# Altium schematic symbol library Resistors$.SchLib: 672 symbols (part 2 of 5)
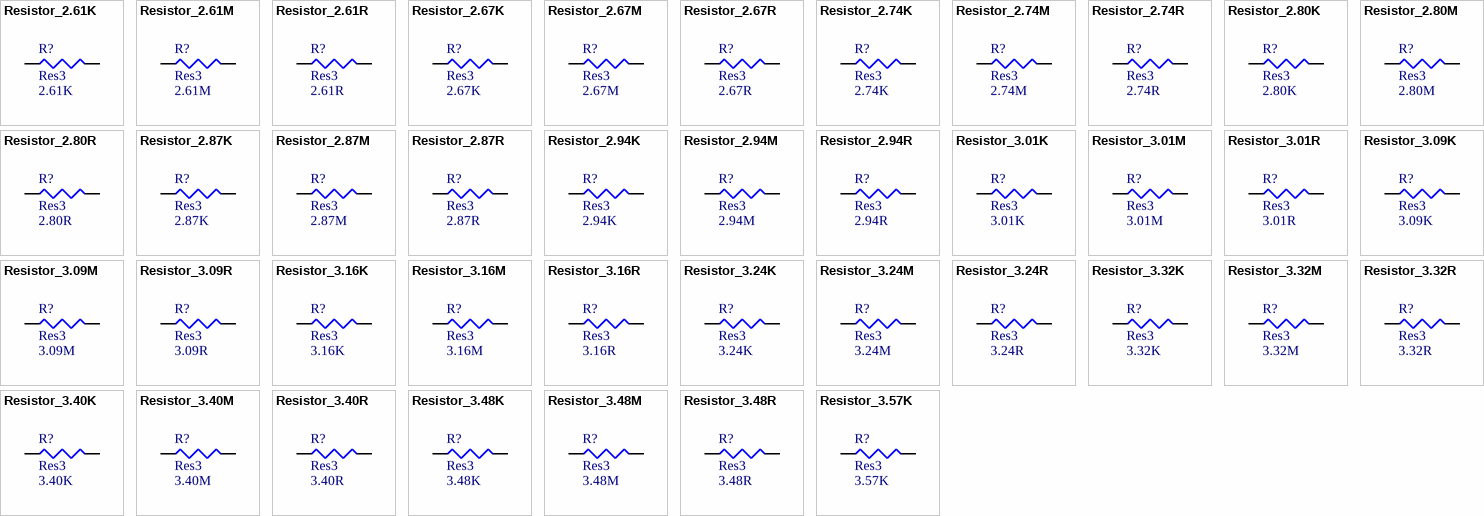
[diagram p17: symbols Resistor_2.61K to Resistor_3.57K]

## Resistor_3.32K
designator R?, comment Res3  value 3.32K
RES SMD 3.32K OHM 1% 1/8W 0805; MPN: CRCW08053K32FKEA; Name: Resistor_3.32K; PN: 541-3320KCCT-ND; URL: http://www.digikey.ca/product-detail/en/CRCW08053K32FKEA/541-3320KCCT-ND
footprint RESC2112X05M (Chip Resistor, 2-Leads, Body 2.05x1.25mm, IPC Low Density)
pins: 1, 2

## Resistor_3.32M
designator R?, comment Res3  value 3.32M
RES SMD 3.32M OHM 1% 1/8W 0805; MPN: CRCW08053M32FKEA; Name: Resistor_3.32M; PN: 541-3320MCCT-ND; URL: http://www.digikey.ca/product-detail/en/CRCW08053M32FKEA/541-3320MCCT-ND
footprint RESC2112X05M (Chip Resistor, 2-Leads, Body 2.05x1.25mm, IPC Low Density)
pins: 1, 2

## Resistor_3.32R
designator R?, comment Res3  value 3.32R
RES SMD 3.32R OHM 1% 1/8W 0805; MPN: CRCW08053R32FKEA; Name: Resistor_3.32R; PN: 541-3.32CCCT-ND; URL: http://www.digikey.ca/product-detail/en/CRCW08053R32FKEA/541-3.32CCCT-ND
footprint RESC2112X05M (Chip Resistor, 2-Leads, Body 2.05x1.25mm, IPC Low Density)
pins: 1, 2

## Resistor_3.40K
designator R?, comment Res3  value 3.40K
RES SMD 3.40K OHM 1% 1/8W 0805; MPN: CRCW08053K40FKEA; Name: Resistor_3.40K; PN: 541-3400KCCT-ND; URL: http://www.digikey.ca/product-detail/en/CRCW08053K40FKEA/541-3400KCCT-ND
footprint RESC2112X05M (Chip Resistor, 2-Leads, Body 2.05x1.25mm, IPC Low Density)
pins: 1, 2

## Resistor_3.40M
designator R?, comment Res3  value 3.40M
RES SMD 3.40M OHM 1% 1/8W 0805; MPN: CRCW08053M40FKEA; Name: Resistor_3.40M; PN: 541-3400MCCT-ND; URL: http://www.digikey.ca/product-detail/en/CRCW08053M40FKEA/541-3400MCCT-ND
footprint RESC2112X05M (Chip Resistor, 2-Leads, Body 2.05x1.25mm, IPC Low Density)
pins: 1, 2

## Resistor_3.40R
designator R?, comment Res3  value 3.40R
RES SMD 3.40R OHM 1% 1/8W 0805; MPN: CRCW08053R40FKEA; Name: Resistor_3.40R; PN: 541-3.40CCCT-ND; URL: http://www.digikey.ca/product-detail/en/CRCW08053R40FKEA/541-3.40CCCT-ND
footprint RESC2112X05M (Chip Resistor, 2-Leads, Body 2.05x1.25mm, IPC Low Density)
pins: 1, 2

## Resistor_3.48K
designator R?, comment Res3  value 3.48K
RES SMD 3.48K OHM 1% 1/8W 0805; MPN: CRCW08053K48FKEA; Name: Resistor_3.48K; PN: 541-3480KCCT-ND; URL: http://www.digikey.ca/product-detail/en/CRCW08053K48FKEA/541-3480KCCT-ND
footprint RESC2112X05M (Chip Resistor, 2-Leads, Body 2.05x1.25mm, IPC Low Density)
pins: 1, 2

## Resistor_3.48M
designator R?, comment Res3  value 3.48M
RES SMD 3.48M OHM 1% 1/8W 0805; MPN: CRCW08053M48FKEA; Name: Resistor_3.48M; PN: 541-3480MCCT-ND; URL: http://www.digikey.ca/product-detail/en/CRCW08053M48FKEA/541-3480MCCT-ND
footprint RESC2112X05M (Chip Resistor, 2-Leads, Body 2.05x1.25mm, IPC Low Density)
pins: 1, 2

## Resistor_3.48R
designator R?, comment Res3  value 3.48R
RES SMD 3.48R OHM 1% 1/8W 0805; MPN: CRCW08053R48FKEA; Name: Resistor_3.48R; PN: 541-3.48CCCT-ND; URL: http://www.digikey.ca/product-detail/en/CRCW08053R48FKEA/541-3.48CCCT-ND
footprint RESC2112X05M (Chip Resistor, 2-Leads, Body 2.05x1.25mm, IPC Low Density)
pins: 1, 2

## Resistor_3.57K
designator R?, comment Res3  value 3.57K
RES SMD 3.57K OHM 1% 1/8W 0805; MPN: CRCW08053K57FKEA; Name: Resistor_3.57K; PN: 541-3570KCCT-ND; URL: http://www.digikey.ca/product-detail/en/CRCW08053K57FKEA/541-3570KCCT-ND
footprint RESC2112X05M (Chip Resistor, 2-Leads, Body 2.05x1.25mm, IPC Low Density)
pins: 1, 2

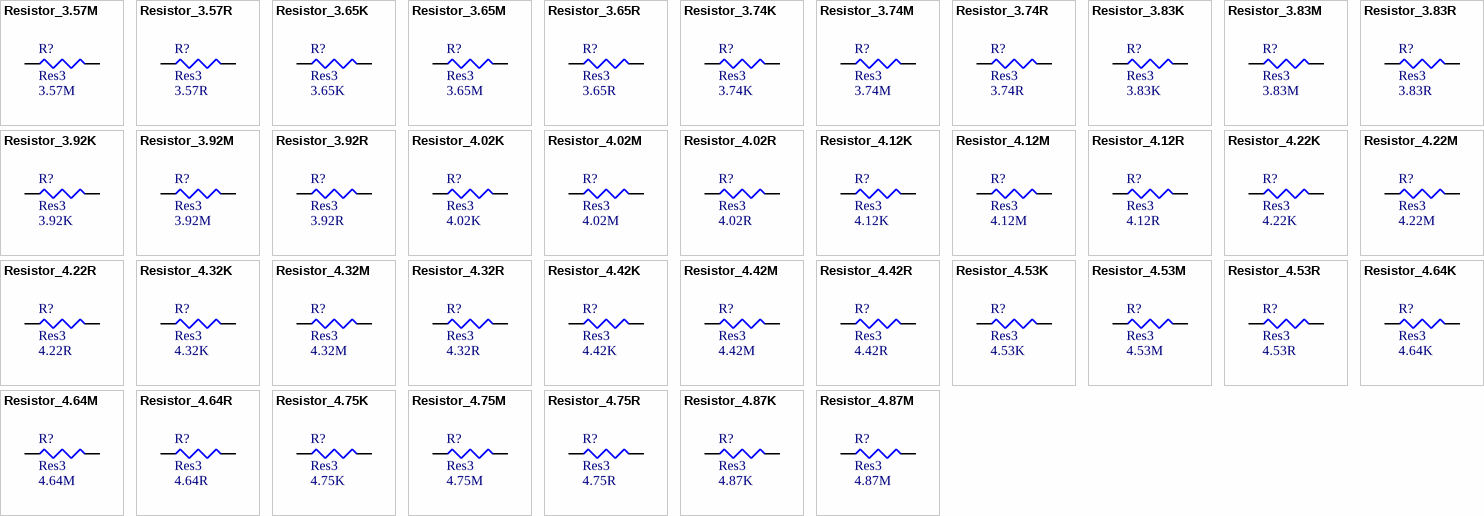
[diagram p4: symbols Resistor_3.57M to Resistor_4.87M]

## Resistor_3.57M
designator R?, comment Res3  value 3.57M
RES SMD 3.57M OHM 1% 1/8W 0805; MPN: CRCW08053M57FKEA; Name: Resistor_3.57M; PN: 541-3570MCCT-ND; URL: http://www.digikey.ca/product-detail/en/CRCW08053M57FKEA/541-3570MCCT-ND
footprint RESC2112X05M (Chip Resistor, 2-Leads, Body 2.05x1.25mm, IPC Low Density)
pins: 1, 2

## Resistor_3.57R
designator R?, comment Res3  value 3.57R
RES SMD 3.57R OHM 1% 1/8W 0805; MPN: CRCW08053R57FKEA; Name: Resistor_3.57R; PN: 541-3.57CCCT-ND; URL: http://www.digikey.ca/product-detail/en/CRCW08053R57FKEA/541-3.57CCCT-ND
footprint RESC2112X05M (Chip Resistor, 2-Leads, Body 2.05x1.25mm, IPC Low Density)
pins: 1, 2

## Resistor_3.65K
designator R?, comment Res3  value 3.65K
RES SMD 3.65K OHM 1% 1/8W 0805; MPN: CRCW08053K65FKEA; Name: Resistor_3.65K; PN: 541-3650KCCT-ND; URL: http://www.digikey.ca/product-detail/en/CRCW08053K65FKEA/541-3650KCCT-ND
footprint RESC2112X05M (Chip Resistor, 2-Leads, Body 2.05x1.25mm, IPC Low Density)
pins: 1, 2

## Resistor_3.65M
designator R?, comment Res3  value 3.65M
RES SMD 3.65M OHM 1% 1/8W 0805; MPN: CRCW08053M65FKEA; Name: Resistor_3.65M; PN: 541-3650MCCT-ND; URL: http://www.digikey.ca/product-detail/en/CRCW08053M65FKEA/541-3650MCCT-ND
footprint RESC2112X05M (Chip Resistor, 2-Leads, Body 2.05x1.25mm, IPC Low Density)
pins: 1, 2

## Resistor_3.65R
designator R?, comment Res3  value 3.65R
RES SMD 3.65R OHM 1% 1/8W 0805; MPN: CRCW08053R65FKEA; Name: Resistor_3.65R; PN: 541-3.65CCCT-ND; URL: http://www.digikey.ca/product-detail/en/CRCW08053R65FKEA/541-3.65CCCT-ND
footprint RESC2112X05M (Chip Resistor, 2-Leads, Body 2.05x1.25mm, IPC Low Density)
pins: 1, 2

## Resistor_3.74K
designator R?, comment Res3  value 3.74K
RES SMD 3.74K OHM 1% 1/8W 0805; MPN: CRCW08053K74FKEA; Name: Resistor_3.74K; PN: 541-3740KCCT-ND; URL: http://www.digikey.ca/product-detail/en/CRCW08053K74FKEA/541-3740KCCT-ND
footprint RESC2112X05M (Chip Resistor, 2-Leads, Body 2.05x1.25mm, IPC Low Density)
pins: 1, 2

## Resistor_3.74M
designator R?, comment Res3  value 3.74M
RES SMD 3.74M OHM 1% 1/8W 0805; MPN: CRCW08053M74FKEA; Name: Resistor_3.74M; PN: 541-3740MCCT-ND; URL: http://www.digikey.ca/product-detail/en/CRCW08053M74FKEA/541-3740MCCT-ND
footprint RESC2112X05M (Chip Resistor, 2-Leads, Body 2.05x1.25mm, IPC Low Density)
pins: 1, 2

## Resistor_3.74R
designator R?, comment Res3  value 3.74R
RES SMD 3.74R OHM 1% 1/8W 0805; MPN: CRCW08053R74FKEA; Name: Resistor_3.74R; PN: 541-3.74CCCT-ND; URL: http://www.digikey.ca/product-detail/en/CRCW08053R74FKEA/541-3.74CCCT-ND
footprint RESC2112X05M (Chip Resistor, 2-Leads, Body 2.05x1.25mm, IPC Low Density)
pins: 1, 2

## Resistor_3.83K
designator R?, comment Res3  value 3.83K
RES SMD 3.83K OHM 1% 1/8W 0805; MPN: CRCW08053K83FKEA; Name: Resistor_3.83K; PN: 541-3830KCCT-ND; URL: http://www.digikey.ca/product-detail/en/CRCW08053K83FKEA/541-3830KCCT-ND
footprint RESC2112X05M (Chip Resistor, 2-Leads, Body 2.05x1.25mm, IPC Low Density)
pins: 1, 2

## Resistor_3.83M
designator R?, comment Res3  value 3.83M
RES SMD 3.83M OHM 1% 1/8W 0805; MPN: CRCW08053M83FKEA; Name: Resistor_3.83M; PN: 541-3830MCCT-ND; URL: http://www.digikey.ca/product-detail/en/CRCW08053M83FKEA/541-3830MCCT-ND
footprint RESC2112X05M (Chip Resistor, 2-Leads, Body 2.05x1.25mm, IPC Low Density)
pins: 1, 2

## Resistor_3.83R
designator R?, comment Res3  value 3.83R
RES SMD 3.83R OHM 1% 1/8W 0805; MPN: CRCW08053R83FKEA; Name: Resistor_3.83R; PN: 541-3.83CCCT-ND; URL: http://www.digikey.ca/product-detail/en/CRCW08053R83FKEA/541-3.83CCCT-ND
footprint RESC2112X05M (Chip Resistor, 2-Leads, Body 2.05x1.25mm, IPC Low Density)
pins: 1, 2

## Resistor_3.92K
designator R?, comment Res3  value 3.92K
RES SMD 3.92K OHM 1% 1/8W 0805; MPN: CRCW08053K92FKEA; Name: Resistor_3.92K; PN: 541-3920KCCT-ND; URL: http://www.digikey.ca/product-detail/en/CRCW08053K92FKEA/541-3920KCCT-ND
footprint RESC2112X05M (Chip Resistor, 2-Leads, Body 2.05x1.25mm, IPC Low Density)
pins: 1, 2

## Resistor_3.92M
designator R?, comment Res3  value 3.92M
RES SMD 3.92M OHM 1% 1/8W 0805; MPN: CRCW08053M92FKEA; Name: Resistor_3.92M; PN: 541-3920MCCT-ND; URL: http://www.digikey.ca/product-detail/en/CRCW08053M92FKEA/541-3920MCCT-ND
footprint RESC2112X05M (Chip Resistor, 2-Leads, Body 2.05x1.25mm, IPC Low Density)
pins: 1, 2

## Resistor_3.92R
designator R?, comment Res3  value 3.92R
RES SMD 3.92R OHM 1% 1/8W 0805; MPN: CRCW08053R92FKEA; Name: Resistor_3.92R; PN: 541-3.92CCCT-ND; URL: http://www.digikey.ca/product-detail/en/CRCW08053R92FKEA/541-3.92CCCT-ND
footprint RESC2112X05M (Chip Resistor, 2-Leads, Body 2.05x1.25mm, IPC Low Density)
pins: 1, 2

## Resistor_4.02K
designator R?, comment Res3  value 4.02K
RES SMD 4.02K OHM 1% 1/8W 0805; MPN: CRCW08054K02FKEA; Name: Resistor_4.02K; PN: 541-4020KCCT-ND; URL: http://www.digikey.ca/product-detail/en/CRCW08054K02FKEA/541-4020KCCT-ND
footprint RESC2112X05M (Chip Resistor, 2-Leads, Body 2.05x1.25mm, IPC Low Density)
pins: 1, 2

## Resistor_4.02M
designator R?, comment Res3  value 4.02M
RES SMD 4.02M OHM 1% 1/8W 0805; MPN: CRCW08054M02FKEA; Name: Resistor_4.02M; PN: 541-4020MCCT-ND; URL: http://www.digikey.ca/product-detail/en/CRCW08054M02FKEA/541-4020MCCT-ND
footprint RESC2112X05M (Chip Resistor, 2-Leads, Body 2.05x1.25mm, IPC Low Density)
pins: 1, 2

## Resistor_4.02R
designator R?, comment Res3  value 4.02R
RES SMD 4.02R OHM 1% 1/8W 0805; MPN: CRCW08054R02FKEA; Name: Resistor_4.02R; PN: 541-4.02CCCT-ND; URL: http://www.digikey.ca/product-detail/en/CRCW08054R02FKEA/541-4.02CCCT-ND
footprint RESC2112X05M (Chip Resistor, 2-Leads, Body 2.05x1.25mm, IPC Low Density)
pins: 1, 2

## Resistor_4.12K
designator R?, comment Res3  value 4.12K
RES SMD 4.12K OHM 1% 1/8W 0805; MPN: CRCW08054K12FKEA; Name: Resistor_4.12K; PN: 541-4120KCCT-ND; URL: http://www.digikey.ca/product-detail/en/CRCW08054K12FKEA/541-4120KCCT-ND
footprint RESC2112X05M (Chip Resistor, 2-Leads, Body 2.05x1.25mm, IPC Low Density)
pins: 1, 2

## Resistor_4.12M
designator R?, comment Res3  value 4.12M
RES SMD 4.12M OHM 1% 1/8W 0805; MPN: CRCW08054M12FKEA; Name: Resistor_4.12M; PN: 541-4120MCCT-ND; URL: http://www.digikey.ca/product-detail/en/CRCW08054M12FKEA/541-4120MCCT-ND
footprint RESC2112X05M (Chip Resistor, 2-Leads, Body 2.05x1.25mm, IPC Low Density)
pins: 1, 2

## Resistor_4.12R
designator R?, comment Res3  value 4.12R
RES SMD 4.12R OHM 1% 1/8W 0805; MPN: CRCW08054R12FKEA; Name: Resistor_4.12R; PN: 541-4.12CCCT-ND; URL: http://www.digikey.ca/product-detail/en/CRCW08054R12FKEA/541-4.12CCCT-ND
footprint RESC2112X05M (Chip Resistor, 2-Leads, Body 2.05x1.25mm, IPC Low Density)
pins: 1, 2

## Resistor_4.22K
designator R?, comment Res3  value 4.22K
RES SMD 4.22K OHM 1% 1/8W 0805; MPN: CRCW08054K22FKEA; Name: Resistor_4.22K; PN: 541-4220KCCT-ND; URL: http://www.digikey.ca/product-detail/en/CRCW08054K22FKEA/541-4220KCCT-ND
footprint RESC2112X05M (Chip Resistor, 2-Leads, Body 2.05x1.25mm, IPC Low Density)
pins: 1, 2

## Resistor_4.22M
designator R?, comment Res3  value 4.22M
RES SMD 4.22M OHM 1% 1/8W 0805; MPN: CRCW08054M22FKEA; Name: Resistor_4.22M; PN: 541-4220MCCT-ND; URL: http://www.digikey.ca/product-detail/en/CRCW08054M22FKEA/541-4220MCCT-ND
footprint RESC2112X05M (Chip Resistor, 2-Leads, Body 2.05x1.25mm, IPC Low Density)
pins: 1, 2

## Resistor_4.22R
designator R?, comment Res3  value 4.22R
RES SMD 4.22R OHM 1% 1/8W 0805; MPN: CRCW08054R22FKEA; Name: Resistor_4.22R; PN: 541-4.22CCCT-ND; URL: http://www.digikey.ca/product-detail/en/CRCW08054R22FKEA/541-4.22CCCT-ND
footprint RESC2112X05M (Chip Resistor, 2-Leads, Body 2.05x1.25mm, IPC Low Density)
pins: 1, 2

## Resistor_4.32K
designator R?, comment Res3  value 4.32K
RES SMD 4.32K OHM 1% 1/8W 0805; MPN: CRCW08054K32FKEA; Name: Resistor_4.32K; PN: 541-4320KCCT-ND; URL: http://www.digikey.ca/product-detail/en/CRCW08054K32FKEA/541-4320KCCT-ND
footprint RESC2112X05M (Chip Resistor, 2-Leads, Body 2.05x1.25mm, IPC Low Density)
pins: 1, 2

## Resistor_4.32M
designator R?, comment Res3  value 4.32M
RES SMD 4.32M OHM 1% 1/8W 0805; MPN: CRCW08054M32FKEA; Name: Resistor_4.32M; PN: 541-4320MCCT-ND; URL: http://www.digikey.ca/product-detail/en/CRCW08054M32FKEA/541-4320MCCT-ND
footprint RESC2112X05M (Chip Resistor, 2-Leads, Body 2.05x1.25mm, IPC Low Density)
pins: 1, 2

## Resistor_4.32R
designator R?, comment Res3  value 4.32R
RES SMD 4.32R OHM 1% 1/8W 0805; MPN: CRCW08054R32FKEA; Name: Resistor_4.32R; PN: 541-4.32CCCT-ND; URL: http://www.digikey.ca/product-detail/en/CRCW08054R32FKEA/541-4.32CCCT-ND
footprint RESC2112X05M (Chip Resistor, 2-Leads, Body 2.05x1.25mm, IPC Low Density)
pins: 1, 2

## Resistor_4.42K
designator R?, comment Res3  value 4.42K
RES SMD 4.42K OHM 1% 1/8W 0805; MPN: CRCW08054K42FKEA; Name: Resistor_4.42K; PN: 541-4420KCCT-ND; URL: http://www.digikey.ca/product-detail/en/CRCW08054K42FKEA/541-4420KCCT-ND
footprint RESC2112X05M (Chip Resistor, 2-Leads, Body 2.05x1.25mm, IPC Low Density)
pins: 1, 2

## Resistor_4.42M
designator R?, comment Res3  value 4.42M
RES SMD 4.42M OHM 1% 1/8W 0805; MPN: CRCW08054M42FKEA; Name: Resistor_4.42M; PN: 541-4420MCCT-ND; URL: http://www.digikey.ca/product-detail/en/CRCW08054M42FKEA/541-4420MCCT-ND
footprint RESC2112X05M (Chip Resistor, 2-Leads, Body 2.05x1.25mm, IPC Low Density)
pins: 1, 2

## Resistor_4.42R
designator R?, comment Res3  value 4.42R
RES SMD 4.42R OHM 1% 1/8W 0805; MPN: CRCW08054R42FKEA; Name: Resistor_4.42R; PN: 541-4.42CCCT-ND; URL: http://www.digikey.ca/product-detail/en/CRCW08054R42FKEA/541-4.42CCCT-ND
footprint RESC2112X05M (Chip Resistor, 2-Leads, Body 2.05x1.25mm, IPC Low Density)
pins: 1, 2

## Resistor_4.53K
designator R?, comment Res3  value 4.53K
RES SMD 4.53K OHM 1% 1/8W 0805; MPN: CRCW08054K53FKEA; Name: Resistor_4.53K; PN: 541-4530KCCT-ND; URL: http://www.digikey.ca/product-detail/en/CRCW08054K53FKEA/541-4530KCCT-ND
footprint RESC2112X05M (Chip Resistor, 2-Leads, Body 2.05x1.25mm, IPC Low Density)
pins: 1, 2

## Resistor_4.53M
designator R?, comment Res3  value 4.53M
RES SMD 4.53M OHM 1% 1/8W 0805; MPN: CRCW08054M53FKEA; Name: Resistor_4.53M; PN: 541-4530MCCT-ND; URL: http://www.digikey.ca/product-detail/en/CRCW08054M53FKEA/541-4530MCCT-ND
footprint RESC2112X05M (Chip Resistor, 2-Leads, Body 2.05x1.25mm, IPC Low Density)
pins: 1, 2

## Resistor_4.53R
designator R?, comment Res3  value 4.53R
RES SMD 4.53R OHM 1% 1/8W 0805; MPN: CRCW08054R53FKEA; Name: Resistor_4.53R; PN: 541-4.53CCCT-ND; URL: http://www.digikey.ca/product-detail/en/CRCW08054R53FKEA/541-4.53CCCT-ND
footprint RESC2112X05M (Chip Resistor, 2-Leads, Body 2.05x1.25mm, IPC Low Density)
pins: 1, 2

## Resistor_4.64K
designator R?, comment Res3  value 4.64K
RES SMD 4.64K OHM 1% 1/8W 0805; MPN: CRCW08054K64FKEA; Name: Resistor_4.64K; PN: 541-4640KCCT-ND; URL: http://www.digikey.ca/product-detail/en/CRCW08054K64FKEA/541-4640KCCT-ND
footprint RESC2112X05M (Chip Resistor, 2-Leads, Body 2.05x1.25mm, IPC Low Density)
pins: 1, 2

## Resistor_4.64M
designator R?, comment Res3  value 4.64M
RES SMD 4.64M OHM 1% 1/8W 0805; MPN: CRCW08054M64FKEA; Name: Resistor_4.64M; PN: 541-4640MCCT-ND; URL: http://www.digikey.ca/product-detail/en/CRCW08054M64FKEA/541-4640MCCT-ND
footprint RESC2112X05M (Chip Resistor, 2-Leads, Body 2.05x1.25mm, IPC Low Density)
pins: 1, 2

## Resistor_4.64R
designator R?, comment Res3  value 4.64R
RES SMD 4.64R OHM 1% 1/8W 0805; MPN: CRCW08054R64FKEA; Name: Resistor_4.64R; PN: 541-4.64CCCT-ND; URL: http://www.digikey.ca/product-detail/en/CRCW08054R64FKEA/541-4.64CCCT-ND
footprint RESC2112X05M (Chip Resistor, 2-Leads, Body 2.05x1.25mm, IPC Low Density)
pins: 1, 2

## Resistor_4.75K
designator R?, comment Res3  value 4.75K
RES SMD 4.75K OHM 1% 1/8W 0805; MPN: CRCW08054K75FKEA; Name: Resistor_4.75K; PN: 541-4750KCCT-ND; URL: http://www.digikey.ca/product-detail/en/CRCW08054K75FKEA/541-4750KCCT-ND
footprint RESC2112X05M (Chip Resistor, 2-Leads, Body 2.05x1.25mm, IPC Low Density)
pins: 1, 2

## Resistor_4.75M
designator R?, comment Res3  value 4.75M
RES SMD 4.75M OHM 1% 1/8W 0805; MPN: CRCW08054M75FKEA; Name: Resistor_4.75M; PN: 541-4750MCCT-ND; URL: http://www.digikey.ca/product-detail/en/CRCW08054M75FKEA/541-4750MCCT-ND
footprint RESC2112X05M (Chip Resistor, 2-Leads, Body 2.05x1.25mm, IPC Low Density)
pins: 1, 2

## Resistor_4.75R
designator R?, comment Res3  value 4.75R
RES SMD 4.75R OHM 1% 1/8W 0805; MPN: CRCW08054R75FKEA; Name: Resistor_4.75R; PN: 541-4.75CCCT-ND; URL: http://www.digikey.ca/product-detail/en/CRCW08054R75FKEA/541-4.75CCCT-ND
footprint RESC2112X05M (Chip Resistor, 2-Leads, Body 2.05x1.25mm, IPC Low Density)
pins: 1, 2

## Resistor_4.87K
designator R?, comment Res3  value 4.87K
RES SMD 4.87K OHM 1% 1/8W 0805; MPN: CRCW08054K87FKEA; Name: Resistor_4.87K; PN: 541-4870KCCT-ND; URL: http://www.digikey.ca/product-detail/en/CRCW08054K87FKEA/541-4870KCCT-ND
footprint RESC2112X05M (Chip Resistor, 2-Leads, Body 2.05x1.25mm, IPC Low Density)
pins: 1, 2

## Resistor_4.87M
designator R?, comment Res3  value 4.87M
RES SMD 4.87M OHM 1% 1/8W 0805; MPN: CRCW08054M87FKEA; Name: Resistor_4.87M; PN: 541-4870MCCT-ND; URL: http://www.digikey.ca/product-detail/en/CRCW08054M87FKEA/541-4870MCCT-ND
footprint RESC2112X05M (Chip Resistor, 2-Leads, Body 2.05x1.25mm, IPC Low Density)
pins: 1, 2

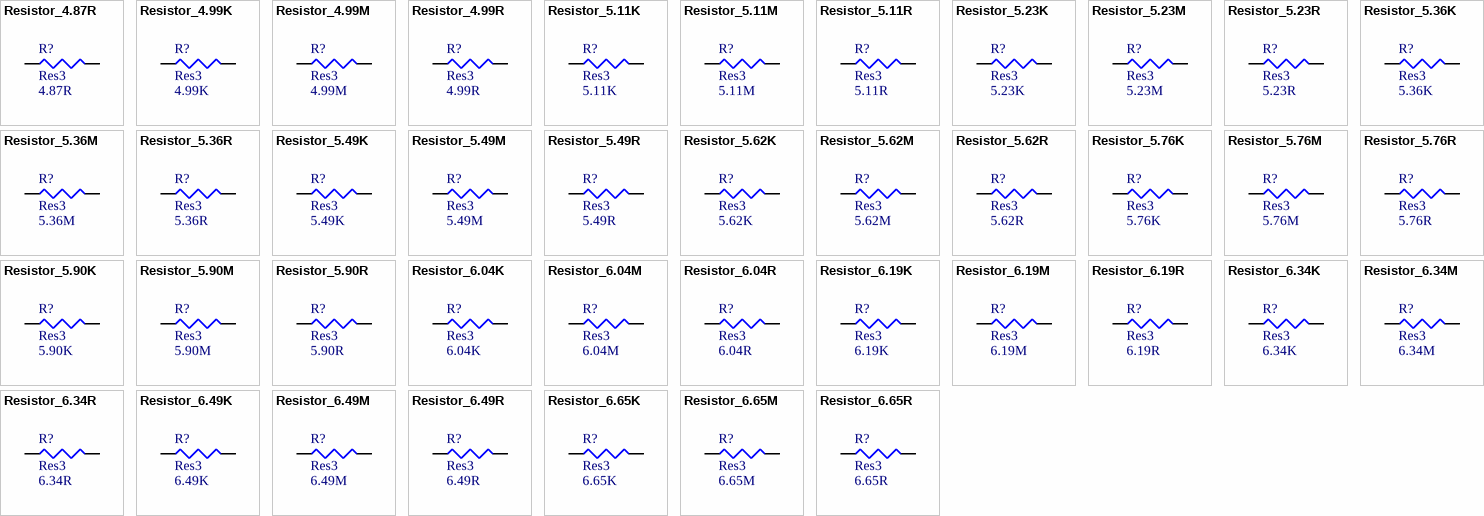
[diagram p5: symbols Resistor_4.87R to Resistor_6.65R]

## Resistor_4.87R
designator R?, comment Res3  value 4.87R
RES SMD 4.87R OHM 1% 1/8W 0805; MPN: CRCW08054R87FKEA; Name: Resistor_4.87R; PN: 541-4.87CCCT-ND; URL: http://www.digikey.ca/product-detail/en/CRCW08054R87FKEA/541-4.87CCCT-ND
footprint RESC2112X05M (Chip Resistor, 2-Leads, Body 2.05x1.25mm, IPC Low Density)
pins: 1, 2

## Resistor_4.99K
designator R?, comment Res3  value 4.99K
RES SMD 4.99K OHM 1% 1/8W 0805; MPN: CRCW08054K99FKEA; Name: Resistor_4.99K; PN: 541-4990KCCT-ND; URL: http://www.digikey.ca/product-detail/en/CRCW08054K99FKEA/541-4990KCCT-ND
footprint RESC2112X05M (Chip Resistor, 2-Leads, Body 2.05x1.25mm, IPC Low Density)
pins: 1, 2

## Resistor_4.99M
designator R?, comment Res3  value 4.99M
RES SMD 4.99M OHM 1% 1/8W 0805; MPN: CRCW08054M99FKEA; Name: Resistor_4.99M; PN: 541-4990MCCT-ND; URL: http://www.digikey.ca/product-detail/en/CRCW08054M99FKEA/541-4990MCCT-ND
footprint RESC2112X05M (Chip Resistor, 2-Leads, Body 2.05x1.25mm, IPC Low Density)
pins: 1, 2

## Resistor_4.99R
designator R?, comment Res3  value 4.99R
RES SMD 4.99R OHM 1% 1/8W 0805; MPN: CRCW08054R99FKEA; Name: Resistor_4.99R; PN: 541-4.99CCCT-ND; URL: http://www.digikey.ca/product-detail/en/CRCW08054R99FKEA/541-4.99CCCT-ND
footprint RESC2112X05M (Chip Resistor, 2-Leads, Body 2.05x1.25mm, IPC Low Density)
pins: 1, 2

## Resistor_5.11K
designator R?, comment Res3  value 5.11K
RES SMD 5.11K OHM 1% 1/8W 0805; MPN: CRCW08055K11FKEA; Name: Resistor_5.11K; PN: 541-5110KCCT-ND; URL: http://www.digikey.ca/product-detail/en/CRCW08055K11FKEA/541-5110KCCT-ND
footprint RESC2112X05M (Chip Resistor, 2-Leads, Body 2.05x1.25mm, IPC Low Density)
pins: 1, 2

## Resistor_5.11M
designator R?, comment Res3  value 5.11M
RES SMD 5.11M OHM 1% 1/8W 0805; MPN: CRCW08055M11FKEA; Name: Resistor_5.11M; PN: 541-5110MCCT-ND; URL: http://www.digikey.ca/product-detail/en/CRCW08055M11FKEA/541-5110MCCT-ND
footprint RESC2112X05M (Chip Resistor, 2-Leads, Body 2.05x1.25mm, IPC Low Density)
pins: 1, 2

## Resistor_5.11R
designator R?, comment Res3  value 5.11R
RES SMD 5.11R OHM 1% 1/8W 0805; MPN: CRCW08055R11FKEA; Name: Resistor_5.11R; PN: 541-5.11CCCT-ND; URL: http://www.digikey.ca/product-detail/en/CRCW08055R11FKEA/541-5.11CCCT-ND
footprint RESC2112X05M (Chip Resistor, 2-Leads, Body 2.05x1.25mm, IPC Low Density)
pins: 1, 2

## Resistor_5.23K
designator R?, comment Res3  value 5.23K
RES SMD 5.23K OHM 1% 1/8W 0805; MPN: CRCW08055K23FKEA; Name: Resistor_5.23K; PN: 541-5230KCCT-ND; URL: http://www.digikey.ca/product-detail/en/CRCW08055K23FKEA/541-5230KCCT-ND
footprint RESC2112X05M (Chip Resistor, 2-Leads, Body 2.05x1.25mm, IPC Low Density)
pins: 1, 2

## Resistor_5.23M
designator R?, comment Res3  value 5.23M
RES SMD 5.23M OHM 1% 1/8W 0805; MPN: CRCW08055M23FKEA; Name: Resistor_5.23M; PN: 541-5230MCCT-ND; URL: http://www.digikey.ca/product-detail/en/CRCW08055M23FKEA/541-5230MCCT-ND
footprint RESC2112X05M (Chip Resistor, 2-Leads, Body 2.05x1.25mm, IPC Low Density)
pins: 1, 2

## Resistor_5.23R
designator R?, comment Res3  value 5.23R
RES SMD 5.23R OHM 1% 1/8W 0805; MPN: CRCW08055R23FKEA; Name: Resistor_5.23R; PN: 541-5.23CCCT-ND; URL: http://www.digikey.ca/product-detail/en/CRCW08055R23FKEA/541-5.23CCCT-ND
footprint RESC2112X05M (Chip Resistor, 2-Leads, Body 2.05x1.25mm, IPC Low Density)
pins: 1, 2

## Resistor_5.36K
designator R?, comment Res3  value 5.36K
RES SMD 5.36K OHM 1% 1/8W 0805; MPN: CRCW08055K36FKEA; Name: Resistor_5.36K; PN: 541-5360KCCT-ND; URL: http://www.digikey.ca/product-detail/en/CRCW08055K36FKEA/541-5360KCCT-ND
footprint RESC2112X05M (Chip Resistor, 2-Leads, Body 2.05x1.25mm, IPC Low Density)
pins: 1, 2

## Resistor_5.36M
designator R?, comment Res3  value 5.36M
RES SMD 5.36M OHM 1% 1/8W 0805; MPN: CRCW08055M36FKEA; Name: Resistor_5.36M; PN: 541-5360MCCT-ND; URL: http://www.digikey.ca/product-detail/en/CRCW08055M36FKEA/541-5360MCCT-ND
footprint RESC2112X05M (Chip Resistor, 2-Leads, Body 2.05x1.25mm, IPC Low Density)
pins: 1, 2

## Resistor_5.36R
designator R?, comment Res3  value 5.36R
RES SMD 5.36R OHM 1% 1/8W 0805; MPN: CRCW08055R36FKEA; Name: Resistor_5.36R; PN: 541-5.36CCCT-ND; URL: http://www.digikey.ca/product-detail/en/CRCW08055R36FKEA/541-5.36CCCT-ND
footprint RESC2112X05M (Chip Resistor, 2-Leads, Body 2.05x1.25mm, IPC Low Density)
pins: 1, 2

## Resistor_5.49K
designator R?, comment Res3  value 5.49K
RES SMD 5.49K OHM 1% 1/8W 0805; MPN: CRCW08055K49FKEA; Name: Resistor_5.49K; PN: 541-5490KCCT-ND; URL: http://www.digikey.ca/product-detail/en/CRCW08055K49FKEA/541-5490KCCT-ND
footprint RESC2112X05M (Chip Resistor, 2-Leads, Body 2.05x1.25mm, IPC Low Density)
pins: 1, 2

## Resistor_5.49M
designator R?, comment Res3  value 5.49M
RES SMD 5.49M OHM 1% 1/8W 0805; MPN: CRCW08055M49FKEA; Name: Resistor_5.49M; PN: 541-5490MCCT-ND; URL: http://www.digikey.ca/product-detail/en/CRCW08055M49FKEA/541-5490MCCT-ND
footprint RESC2112X05M (Chip Resistor, 2-Leads, Body 2.05x1.25mm, IPC Low Density)
pins: 1, 2

## Resistor_5.49R
designator R?, comment Res3  value 5.49R
RES SMD 5.49R OHM 1% 1/8W 0805; MPN: CRCW08055R49FKEA; Name: Resistor_5.49R; PN: 541-5.49CCCT-ND; URL: http://www.digikey.ca/product-detail/en/CRCW08055R49FKEA/541-5.49CCCT-ND
footprint RESC2112X05M (Chip Resistor, 2-Leads, Body 2.05x1.25mm, IPC Low Density)
pins: 1, 2

## Resistor_5.62K
designator R?, comment Res3  value 5.62K
RES SMD 5.62K OHM 1% 1/8W 0805; MPN: CRCW08055K62FKEA; Name: Resistor_5.62K; PN: 541-5620KCCT-ND; URL: http://www.digikey.ca/product-detail/en/CRCW08055K62FKEA/541-5620KCCT-ND
footprint RESC2112X05M (Chip Resistor, 2-Leads, Body 2.05x1.25mm, IPC Low Density)
pins: 1, 2

## Resistor_5.62M
designator R?, comment Res3  value 5.62M
RES SMD 5.62M OHM 1% 1/8W 0805; MPN: CRCW08055M62FKEA; Name: Resistor_5.62M; PN: 541-5620MCCT-ND; URL: http://www.digikey.ca/product-detail/en/CRCW08055M62FKEA/541-5620MCCT-ND
footprint RESC2112X05M (Chip Resistor, 2-Leads, Body 2.05x1.25mm, IPC Low Density)
pins: 1, 2

## Resistor_5.62R
designator R?, comment Res3  value 5.62R
RES SMD 5.62R OHM 1% 1/8W 0805; MPN: CRCW08055R62FKEA; Name: Resistor_5.62R; PN: 541-5.62CCCT-ND; URL: http://www.digikey.ca/product-detail/en/CRCW08055R62FKEA/541-5.62CCCT-ND
footprint RESC2112X05M (Chip Resistor, 2-Leads, Body 2.05x1.25mm, IPC Low Density)
pins: 1, 2

## Resistor_5.76K
designator R?, comment Res3  value 5.76K
RES SMD 5.76K OHM 1% 1/8W 0805; MPN: CRCW08055K76FKEA; Name: Resistor_5.76K; PN: 541-5760KCCT-ND; URL: http://www.digikey.ca/product-detail/en/CRCW08055K76FKEA/541-5760KCCT-ND
footprint RESC2112X05M (Chip Resistor, 2-Leads, Body 2.05x1.25mm, IPC Low Density)
pins: 1, 2

## Resistor_5.76M
designator R?, comment Res3  value 5.76M
RES SMD 5.76M OHM 1% 1/8W 0805; MPN: CRCW08055M76FKEA; Name: Resistor_5.76M; PN: 541-5760MCCT-ND; URL: http://www.digikey.ca/product-detail/en/CRCW08055M76FKEA/541-5760MCCT-ND
footprint RESC2112X05M (Chip Resistor, 2-Leads, Body 2.05x1.25mm, IPC Low Density)
pins: 1, 2

## Resistor_5.76R
designator R?, comment Res3  value 5.76R
RES SMD 5.76R OHM 1% 1/8W 0805; MPN: CRCW08055R76FKEA; Name: Resistor_5.76R; PN: 541-5.76CCCT-ND; URL: http://www.digikey.ca/product-detail/en/CRCW08055R76FKEA/541-5.76CCCT-ND
footprint RESC2112X05M (Chip Resistor, 2-Leads, Body 2.05x1.25mm, IPC Low Density)
pins: 1, 2

## Resistor_5.90K
designator R?, comment Res3  value 5.90K
RES SMD 5.90K OHM 1% 1/8W 0805; MPN: CRCW08055K90FKEA; Name: Resistor_5.90K; PN: 541-5900KCCT-ND; URL: http://www.digikey.ca/product-detail/en/CRCW08055K90FKEA/541-5900KCCT-ND
footprint RESC2112X05M (Chip Resistor, 2-Leads, Body 2.05x1.25mm, IPC Low Density)
pins: 1, 2

## Resistor_5.90M
designator R?, comment Res3  value 5.90M
RES SMD 5.90M OHM 1% 1/8W 0805; MPN: CRCW08055M90FKEA; Name: Resistor_5.90M; PN: 541-5900MCCT-ND; URL: http://www.digikey.ca/product-detail/en/CRCW08055M90FKEA/541-5900MCCT-ND
footprint RESC2112X05M (Chip Resistor, 2-Leads, Body 2.05x1.25mm, IPC Low Density)
pins: 1, 2

## Resistor_5.90R
designator R?, comment Res3  value 5.90R
RES SMD 5.90R OHM 1% 1/8W 0805; MPN: CRCW08055R90FKEA; Name: Resistor_5.90R; PN: 541-5.90CCCT-ND; URL: http://www.digikey.ca/product-detail/en/CRCW08055R90FKEA/541-5.90CCCT-ND
footprint RESC2112X05M (Chip Resistor, 2-Leads, Body 2.05x1.25mm, IPC Low Density)
pins: 1, 2

## Resistor_6.04K
designator R?, comment Res3  value 6.04K
RES SMD 6.04K OHM 1% 1/8W 0805; MPN: CRCW08056K04FKEA; Name: Resistor_6.04K; PN: 541-6040KCCT-ND; URL: http://www.digikey.ca/product-detail/en/CRCW08056K04FKEA/541-6040KCCT-ND
footprint RESC2112X05M (Chip Resistor, 2-Leads, Body 2.05x1.25mm, IPC Low Density)
pins: 1, 2

## Resistor_6.04M
designator R?, comment Res3  value 6.04M
RES SMD 6.04M OHM 1% 1/8W 0805; MPN: CRCW08056M04FKEA; Name: Resistor_6.04M; PN: 541-6040MCCT-ND; URL: http://www.digikey.ca/product-detail/en/CRCW08056M04FKEA/541-6040MCCT-ND
footprint RESC2112X05M (Chip Resistor, 2-Leads, Body 2.05x1.25mm, IPC Low Density)
pins: 1, 2

## Resistor_6.04R
designator R?, comment Res3  value 6.04R
RES SMD 6.04R OHM 1% 1/8W 0805; MPN: CRCW08056R04FKEA; Name: Resistor_6.04R; PN: 541-6.04CCCT-ND; URL: http://www.digikey.ca/product-detail/en/CRCW08056R04FKEA/541-6.04CCCT-ND
footprint RESC2112X05M (Chip Resistor, 2-Leads, Body 2.05x1.25mm, IPC Low Density)
pins: 1, 2

## Resistor_6.19K
designator R?, comment Res3  value 6.19K
RES SMD 6.19K OHM 1% 1/8W 0805; MPN: CRCW08056K19FKEA; Name: Resistor_6.19K; PN: 541-6190KCCT-ND; URL: http://www.digikey.ca/product-detail/en/CRCW08056K19FKEA/541-6190KCCT-ND
footprint RESC2112X05M (Chip Resistor, 2-Leads, Body 2.05x1.25mm, IPC Low Density)
pins: 1, 2

## Resistor_6.19M
designator R?, comment Res3  value 6.19M
RES SMD 6.19M OHM 1% 1/8W 0805; MPN: CRCW08056M19FKEA; Name: Resistor_6.19M; PN: 541-6190MCCT-ND; URL: http://www.digikey.ca/product-detail/en/CRCW08056M19FKEA/541-6190MCCT-ND
footprint RESC2112X05M (Chip Resistor, 2-Leads, Body 2.05x1.25mm, IPC Low Density)
pins: 1, 2

## Resistor_6.19R
designator R?, comment Res3  value 6.19R
RES SMD 6.19R OHM 1% 1/8W 0805; MPN: CRCW08056R19FKEA; Name: Resistor_6.19R; PN: 541-6.19CCCT-ND; URL: http://www.digikey.ca/product-detail/en/CRCW08056R19FKEA/541-6.19CCCT-ND
footprint RESC2112X05M (Chip Resistor, 2-Leads, Body 2.05x1.25mm, IPC Low Density)
pins: 1, 2

## Resistor_6.34K
designator R?, comment Res3  value 6.34K
RES SMD 6.34K OHM 1% 1/8W 0805; MPN: CRCW08056K34FKEA; Name: Resistor_6.34K; PN: 541-6340KCCT-ND; URL: http://www.digikey.ca/product-detail/en/CRCW08056K34FKEA/541-6340KCCT-ND
footprint RESC2112X05M (Chip Resistor, 2-Leads, Body 2.05x1.25mm, IPC Low Density)
pins: 1, 2

## Resistor_6.34M
designator R?, comment Res3  value 6.34M
RES SMD 6.34M OHM 1% 1/8W 0805; MPN: CRCW08056M34FKEA; Name: Resistor_6.34M; PN: 541-6340MCCT-ND; URL: http://www.digikey.ca/product-detail/en/CRCW08056M34FKEA/541-6340MCCT-ND
footprint RESC2112X05M (Chip Resistor, 2-Leads, Body 2.05x1.25mm, IPC Low Density)
pins: 1, 2

## Resistor_6.34R
designator R?, comment Res3  value 6.34R
RES SMD 6.34R OHM 1% 1/8W 0805; MPN: CRCW08056R34FKEA; Name: Resistor_6.34R; PN: 541-6.34CCCT-ND; URL: http://www.digikey.ca/product-detail/en/CRCW08056R34FKEA/541-6.34CCCT-ND
footprint RESC2112X05M (Chip Resistor, 2-Leads, Body 2.05x1.25mm, IPC Low Density)
pins: 1, 2

## Resistor_6.49K
designator R?, comment Res3  value 6.49K
RES SMD 6.49K OHM 1% 1/8W 0805; MPN: CRCW08056K49FKEA; Name: Resistor_6.49K; PN: 541-6490KCCT-ND; URL: http://www.digikey.ca/product-detail/en/CRCW08056K49FKEA/541-6490KCCT-ND
footprint RESC2112X05M (Chip Resistor, 2-Leads, Body 2.05x1.25mm, IPC Low Density)
pins: 1, 2

## Resistor_6.49M
designator R?, comment Res3  value 6.49M
RES SMD 6.49M OHM 1% 1/8W 0805; MPN: CRCW08056M49FKEA; Name: Resistor_6.49M; PN: 541-6490MCCT-ND; URL: http://www.digikey.ca/product-detail/en/CRCW08056M49FKEA/541-6490MCCT-ND
footprint RESC2112X05M (Chip Resistor, 2-Leads, Body 2.05x1.25mm, IPC Low Density)
pins: 1, 2

## Resistor_6.49R
designator R?, comment Res3  value 6.49R
RES SMD 6.49R OHM 1% 1/8W 0805; MPN: CRCW08056R49FKEA; Name: Resistor_6.49R; PN: 541-6.49CCCT-ND; URL: http://www.digikey.ca/product-detail/en/CRCW08056R49FKEA/541-6.49CCCT-ND
footprint RESC2112X05M (Chip Resistor, 2-Leads, Body 2.05x1.25mm, IPC Low Density)
pins: 1, 2

## Resistor_6.65K
designator R?, comment Res3  value 6.65K
RES SMD 6.65K OHM 1% 1/8W 0805; MPN: CRCW08056K65FKEA; Name: Resistor_6.65K; PN: 541-6650KCCT-ND; URL: http://www.digikey.ca/product-detail/en/CRCW08056K65FKEA/541-6650KCCT-ND
footprint RESC2112X05M (Chip Resistor, 2-Leads, Body 2.05x1.25mm, IPC Low Density)
pins: 1, 2

## Resistor_6.65M
designator R?, comment Res3  value 6.65M
RES SMD 6.65M OHM 1% 1/8W 0805; MPN: CRCW08056M65FKEA; Name: Resistor_6.65M; PN: 541-6650MCCT-ND; URL: http://www.digikey.ca/product-detail/en/CRCW08056M65FKEA/541-6650MCCT-ND
footprint RESC2112X05M (Chip Resistor, 2-Leads, Body 2.05x1.25mm, IPC Low Density)
pins: 1, 2

## Resistor_6.65R
designator R?, comment Res3  value 6.65R
RES SMD 6.65R OHM 1% 1/8W 0805; MPN: CRCW08056R65FKEA; Name: Resistor_6.65R; PN: 541-6.65CCCT-ND; URL: http://www.digikey.ca/product-detail/en/CRCW08056R65FKEA/541-6.65CCCT-ND
footprint RESC2112X05M (Chip Resistor, 2-Leads, Body 2.05x1.25mm, IPC Low Density)
pins: 1, 2

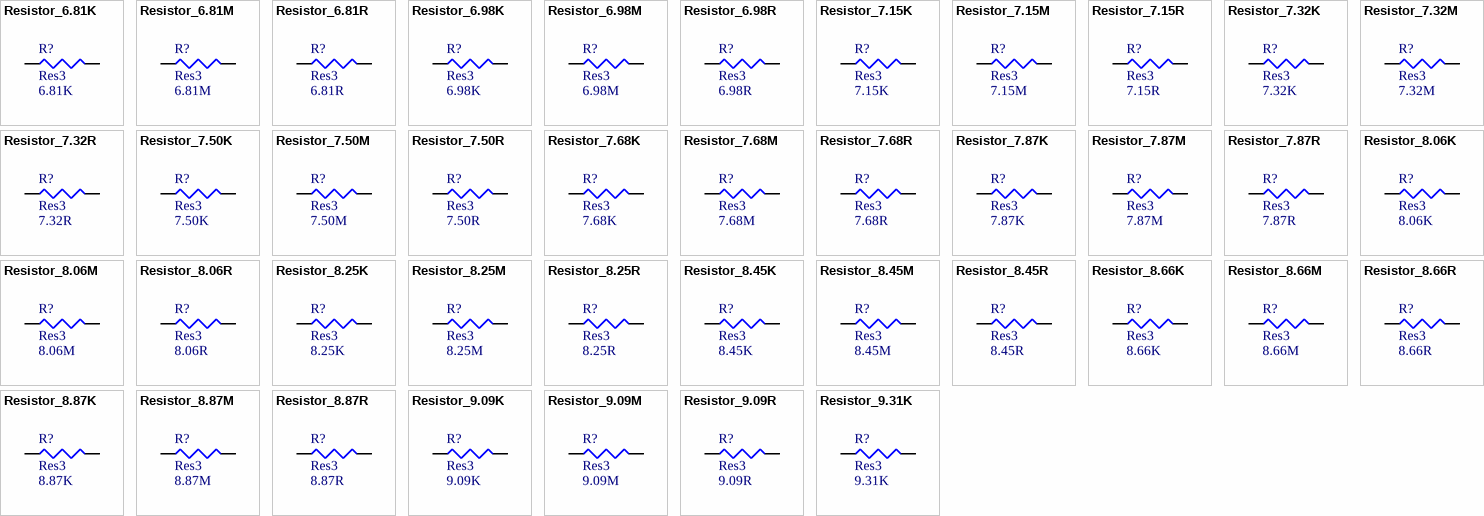
[diagram p6: symbols Resistor_6.81K to Resistor_9.31K]

## Resistor_6.81K
designator R?, comment Res3  value 6.81K
RES SMD 6.81K OHM 1% 1/8W 0805; MPN: CRCW08056K81FKEA; Name: Resistor_6.81K; PN: 541-6810KCCT-ND; URL: http://www.digikey.ca/product-detail/en/CRCW08056K81FKEA/541-6810KCCT-ND
footprint RESC2112X05M (Chip Resistor, 2-Leads, Body 2.05x1.25mm, IPC Low Density)
pins: 1, 2

## Resistor_6.81M
designator R?, comment Res3  value 6.81M
RES SMD 6.81M OHM 1% 1/8W 0805; MPN: CRCW08056M81FKEA; Name: Resistor_6.81M; PN: 541-6810MCCT-ND; URL: http://www.digikey.ca/product-detail/en/CRCW08056M81FKEA/541-6810MCCT-ND
footprint RESC2112X05M (Chip Resistor, 2-Leads, Body 2.05x1.25mm, IPC Low Density)
pins: 1, 2

## Resistor_6.81R
designator R?, comment Res3  value 6.81R
RES SMD 6.81R OHM 1% 1/8W 0805; MPN: CRCW08056R81FKEA; Name: Resistor_6.81R; PN: 541-6.81CCCT-ND; URL: http://www.digikey.ca/product-detail/en/CRCW08056R81FKEA/541-6.81CCCT-ND
footprint RESC2112X05M (Chip Resistor, 2-Leads, Body 2.05x1.25mm, IPC Low Density)
pins: 1, 2

## Resistor_6.98K
designator R?, comment Res3  value 6.98K
RES SMD 6.98K OHM 1% 1/8W 0805; MPN: CRCW08056K98FKEA; Name: Resistor_6.98K; PN: 541-6980KCCT-ND; URL: http://www.digikey.ca/product-detail/en/CRCW08056K98FKEA/541-6980KCCT-ND
footprint RESC2112X05M (Chip Resistor, 2-Leads, Body 2.05x1.25mm, IPC Low Density)
pins: 1, 2

## Resistor_6.98M
designator R?, comment Res3  value 6.98M
RES SMD 6.98M OHM 1% 1/8W 0805; MPN: CRCW08056M98FKEA; Name: Resistor_6.98M; PN: 541-6980MCCT-ND; URL: http://www.digikey.ca/product-detail/en/CRCW08056M98FKEA/541-6980MCCT-ND
footprint RESC2112X05M (Chip Resistor, 2-Leads, Body 2.05x1.25mm, IPC Low Density)
pins: 1, 2

## Resistor_6.98R
designator R?, comment Res3  value 6.98R
RES SMD 6.98R OHM 1% 1/8W 0805; MPN: CRCW08056R98FKEA; Name: Resistor_6.98R; PN: 541-6.98CCCT-ND; URL: http://www.digikey.ca/product-detail/en/CRCW08056R98FKEA/541-6.98CCCT-ND
footprint RESC2112X05M (Chip Resistor, 2-Leads, Body 2.05x1.25mm, IPC Low Density)
pins: 1, 2

## Resistor_7.15K
designator R?, comment Res3  value 7.15K
RES SMD 7.15K OHM 1% 1/8W 0805; MPN: CRCW08057K15FKEA; Name: Resistor_7.15K; PN: 541-7150KCCT-ND; URL: http://www.digikey.ca/product-detail/en/CRCW08057K15FKEA/541-7150KCCT-ND
footprint RESC2112X05M (Chip Resistor, 2-Leads, Body 2.05x1.25mm, IPC Low Density)
pins: 1, 2

## Resistor_7.15M
designator R?, comment Res3  value 7.15M
RES SMD 7.15M OHM 1% 1/8W 0805; MPN: CRCW08057M15FKEA; Name: Resistor_7.15M; PN: 541-7150MCCT-ND; URL: http://www.digikey.ca/product-detail/en/CRCW08057M15FKEA/541-7150MCCT-ND
footprint RESC2112X05M (Chip Resistor, 2-Leads, Body 2.05x1.25mm, IPC Low Density)
pins: 1, 2

## Resistor_7.15R
designator R?, comment Res3  value 7.15R
RES SMD 7.15R OHM 1% 1/8W 0805; MPN: CRCW08057R15FKEA; Name: Resistor_7.15R; PN: 541-7.15CCCT-ND; URL: http://www.digikey.ca/product-detail/en/CRCW08057R15FKEA/541-7.15CCCT-ND
footprint RESC2112X05M (Chip Resistor, 2-Leads, Body 2.05x1.25mm, IPC Low Density)
pins: 1, 2

## Resistor_7.32K
designator R?, comment Res3  value 7.32K
RES SMD 7.32K OHM 1% 1/8W 0805; MPN: CRCW08057K32FKEA; Name: Resistor_7.32K; PN: 541-7320KCCT-ND; URL: http://www.digikey.ca/product-detail/en/CRCW08057K32FKEA/541-7320KCCT-ND
footprint RESC2112X05M (Chip Resistor, 2-Leads, Body 2.05x1.25mm, IPC Low Density)
pins: 1, 2

## Resistor_7.32M
designator R?, comment Res3  value 7.32M
RES SMD 7.32M OHM 1% 1/8W 0805; MPN: CRCW08057M32FKEA; Name: Resistor_7.32M; PN: 541-7320MCCT-ND; URL: http://www.digikey.ca/product-detail/en/CRCW08057M32FKEA/541-7320MCCT-ND
footprint RESC2112X05M (Chip Resistor, 2-Leads, Body 2.05x1.25mm, IPC Low Density)
pins: 1, 2

## Resistor_7.32R
designator R?, comment Res3  value 7.32R
RES SMD 7.32R OHM 1% 1/8W 0805; MPN: CRCW08057R32FKEA; Name: Resistor_7.32R; PN: 541-7.32CCCT-ND; URL: http://www.digikey.ca/product-detail/en/CRCW08057R32FKEA/541-7.32CCCT-ND
footprint RESC2112X05M (Chip Resistor, 2-Leads, Body 2.05x1.25mm, IPC Low Density)
pins: 1, 2

## Resistor_7.50K
designator R?, comment Res3  value 7.50K
RES SMD 7.50K OHM 1% 1/8W 0805; MPN: CRCW08057K50FKEA; Name: Resistor_7.50K; PN: 541-7500KCCT-ND; URL: http://www.digikey.ca/product-detail/en/CRCW08057K50FKEA/541-7500KCCT-ND
footprint RESC2112X05M (Chip Resistor, 2-Leads, Body 2.05x1.25mm, IPC Low Density)
pins: 1, 2

## Resistor_7.50M
designator R?, comment Res3  value 7.50M
RES SMD 7.50M OHM 1% 1/8W 0805; MPN: CRCW08057M50FKEA; Name: Resistor_7.50M; PN: 541-7500MCCT-ND; URL: http://www.digikey.ca/product-detail/en/CRCW08057M50FKEA/541-7500MCCT-ND
footprint RESC2112X05M (Chip Resistor, 2-Leads, Body 2.05x1.25mm, IPC Low Density)
pins: 1, 2

## Resistor_7.50R
designator R?, comment Res3  value 7.50R
RES SMD 7.50R OHM 1% 1/8W 0805; MPN: CRCW08057R50FKEA; Name: Resistor_7.50R; PN: 541-7.50CCCT-ND; URL: http://www.digikey.ca/product-detail/en/CRCW08057R50FKEA/541-7.50CCCT-ND
footprint RESC2112X05M (Chip Resistor, 2-Leads, Body 2.05x1.25mm, IPC Low Density)
pins: 1, 2

## Resistor_7.68K
designator R?, comment Res3  value 7.68K
RES SMD 7.68K OHM 1% 1/8W 0805; MPN: CRCW08057K68FKEA; Name: Resistor_7.68K; PN: 541-7680KCCT-ND; URL: http://www.digikey.ca/product-detail/en/CRCW08057K68FKEA/541-7680KCCT-ND
footprint RESC2112X05M (Chip Resistor, 2-Leads, Body 2.05x1.25mm, IPC Low Density)
pins: 1, 2

## Resistor_7.68M
designator R?, comment Res3  value 7.68M
RES SMD 7.68M OHM 1% 1/8W 0805; MPN: CRCW08057M68FKEA; Name: Resistor_7.68M; PN: 541-7680MCCT-ND; URL: http://www.digikey.ca/product-detail/en/CRCW08057M68FKEA/541-7680MCCT-ND
footprint RESC2112X05M (Chip Resistor, 2-Leads, Body 2.05x1.25mm, IPC Low Density)
pins: 1, 2

## Resistor_7.68R
designator R?, comment Res3  value 7.68R
RES SMD 7.68R OHM 1% 1/8W 0805; MPN: CRCW08057R68FKEA; Name: Resistor_7.68R; PN: 541-7.68CCCT-ND; URL: http://www.digikey.ca/product-detail/en/CRCW08057R68FKEA/541-7.68CCCT-ND
footprint RESC2112X05M (Chip Resistor, 2-Leads, Body 2.05x1.25mm, IPC Low Density)
pins: 1, 2

## Resistor_7.87K
designator R?, comment Res3  value 7.87K
RES SMD 7.87K OHM 1% 1/8W 0805; MPN: CRCW08057K87FKEA; Name: Resistor_7.87K; PN: 541-7870KCCT-ND; URL: http://www.digikey.ca/product-detail/en/CRCW08057K87FKEA/541-7870KCCT-ND
footprint RESC2112X05M (Chip Resistor, 2-Leads, Body 2.05x1.25mm, IPC Low Density)
pins: 1, 2

## Resistor_7.87M
designator R?, comment Res3  value 7.87M
RES SMD 7.87M OHM 1% 1/8W 0805; MPN: CRCW08057M87FKEA; Name: Resistor_7.87M; PN: 541-7870MCCT-ND; URL: http://www.digikey.ca/product-detail/en/CRCW08057M87FKEA/541-7870MCCT-ND
footprint RESC2112X05M (Chip Resistor, 2-Leads, Body 2.05x1.25mm, IPC Low Density)
pins: 1, 2

## Resistor_7.87R
designator R?, comment Res3  value 7.87R
RES SMD 7.87R OHM 1% 1/8W 0805; MPN: CRCW08057R87FKEA; Name: Resistor_7.87R; PN: 541-7.87CCCT-ND; URL: http://www.digikey.ca/product-detail/en/CRCW08057R87FKEA/541-7.87CCCT-ND
footprint RESC2112X05M (Chip Resistor, 2-Leads, Body 2.05x1.25mm, IPC Low Density)
pins: 1, 2

## Resistor_8.06K
designator R?, comment Res3  value 8.06K
RES SMD 8.06K OHM 1% 1/8W 0805; MPN: CRCW08058K06FKEA; Name: Resistor_8.06K; PN: 541-8060KCCT-ND; URL: http://www.digikey.ca/product-detail/en/CRCW08058K06FKEA/541-8060KCCT-ND
footprint RESC2112X05M (Chip Resistor, 2-Leads, Body 2.05x1.25mm, IPC Low Density)
pins: 1, 2

## Resistor_8.06M
designator R?, comment Res3  value 8.06M
RES SMD 8.06M OHM 1% 1/8W 0805; MPN: CRCW08058M06FKEA; Name: Resistor_8.06M; PN: 541-8060MCCT-ND; URL: http://www.digikey.ca/product-detail/en/CRCW08058M06FKEA/541-8060MCCT-ND
footprint RESC2112X05M (Chip Resistor, 2-Leads, Body 2.05x1.25mm, IPC Low Density)
pins: 1, 2

## Resistor_8.06R
designator R?, comment Res3  value 8.06R
RES SMD 8.06R OHM 1% 1/8W 0805; MPN: CRCW08058R06FKEA; Name: Resistor_8.06R; PN: 541-8.06CCCT-ND; URL: http://www.digikey.ca/product-detail/en/CRCW08058R06FKEA/541-8.06CCCT-ND
footprint RESC2112X05M (Chip Resistor, 2-Leads, Body 2.05x1.25mm, IPC Low Density)
pins: 1, 2

## Resistor_8.25K
designator R?, comment Res3  value 8.25K
RES SMD 8.25K OHM 1% 1/8W 0805; MPN: CRCW08058K25FKEA; Name: Resistor_8.25K; PN: 541-8250KCCT-ND; URL: http://www.digikey.ca/product-detail/en/CRCW08058K25FKEA/541-8250KCCT-ND
footprint RESC2112X05M (Chip Resistor, 2-Leads, Body 2.05x1.25mm, IPC Low Density)
pins: 1, 2

## Resistor_8.25M
designator R?, comment Res3  value 8.25M
RES SMD 8.25M OHM 1% 1/8W 0805; MPN: CRCW08058M25FKEA; Name: Resistor_8.25M; PN: 541-8250MCCT-ND; URL: http://www.digikey.ca/product-detail/en/CRCW08058M25FKEA/541-8250MCCT-ND
footprint RESC2112X05M (Chip Resistor, 2-Leads, Body 2.05x1.25mm, IPC Low Density)
pins: 1, 2

## Resistor_8.25R
designator R?, comment Res3  value 8.25R
RES SMD 8.25R OHM 1% 1/8W 0805; MPN: CRCW08058R25FKEA; Name: Resistor_8.25R; PN: 541-8.25CCCT-ND; URL: http://www.digikey.ca/product-detail/en/CRCW08058R25FKEA/541-8.25CCCT-ND
footprint RESC2112X05M (Chip Resistor, 2-Leads, Body 2.05x1.25mm, IPC Low Density)
pins: 1, 2

## Resistor_8.45K
designator R?, comment Res3  value 8.45K
RES SMD 8.45K OHM 1% 1/8W 0805; MPN: CRCW08058K45FKEA; Name: Resistor_8.45K; PN: 541-8450KCCT-ND; URL: http://www.digikey.ca/product-detail/en/CRCW08058K45FKEA/541-8450KCCT-ND
footprint RESC2112X05M (Chip Resistor, 2-Leads, Body 2.05x1.25mm, IPC Low Density)
pins: 1, 2

## Resistor_8.45M
designator R?, comment Res3  value 8.45M
RES SMD 8.45M OHM 1% 1/8W 0805; MPN: CRCW08058M45FKEA; Name: Resistor_8.45M; PN: 541-8450MCCT-ND; URL: http://www.digikey.ca/product-detail/en/CRCW08058M45FKEA/541-8450MCCT-ND
footprint RESC2112X05M (Chip Resistor, 2-Leads, Body 2.05x1.25mm, IPC Low Density)
pins: 1, 2

## Resistor_8.45R
designator R?, comment Res3  value 8.45R
RES SMD 8.45R OHM 1% 1/8W 0805; MPN: CRCW08058R45FKEA; Name: Resistor_8.45R; PN: 541-8.45CCCT-ND; URL: http://www.digikey.ca/product-detail/en/CRCW08058R45FKEA/541-8.45CCCT-ND
footprint RESC2112X05M (Chip Resistor, 2-Leads, Body 2.05x1.25mm, IPC Low Density)
pins: 1, 2

## Resistor_8.66K
designator R?, comment Res3  value 8.66K
RES SMD 8.66K OHM 1% 1/8W 0805; MPN: CRCW08058K66FKEA; Name: Resistor_8.66K; PN: 541-8660KCCT-ND; URL: http://www.digikey.ca/product-detail/en/CRCW08058K66FKEA/541-8660KCCT-ND
footprint RESC2112X05M (Chip Resistor, 2-Leads, Body 2.05x1.25mm, IPC Low Density)
pins: 1, 2

## Resistor_8.66M
designator R?, comment Res3  value 8.66M
RES SMD 8.66M OHM 1% 1/8W 0805; MPN: CRCW08058M66FKEA; Name: Resistor_8.66M; PN: 541-8660MCCT-ND; URL: http://www.digikey.ca/product-detail/en/CRCW08058M66FKEA/541-8660MCCT-ND
footprint RESC2112X05M (Chip Resistor, 2-Leads, Body 2.05x1.25mm, IPC Low Density)
pins: 1, 2

## Resistor_8.66R
designator R?, comment Res3  value 8.66R
RES SMD 8.66R OHM 1% 1/8W 0805; MPN: CRCW08058R66FKEA; Name: Resistor_8.66R; PN: 541-8.66CCCT-ND; URL: http://www.digikey.ca/product-detail/en/CRCW08058R66FKEA/541-8.66CCCT-ND
footprint RESC2112X05M (Chip Resistor, 2-Leads, Body 2.05x1.25mm, IPC Low Density)
pins: 1, 2

## Resistor_8.87K
designator R?, comment Res3  value 8.87K
RES SMD 8.87K OHM 1% 1/8W 0805; MPN: CRCW08058K87FKEA; Name: Resistor_8.87K; PN: 541-8870KCCT-ND; URL: http://www.digikey.ca/product-detail/en/CRCW08058K87FKEA/541-8870KCCT-ND
footprint RESC2112X05M (Chip Resistor, 2-Leads, Body 2.05x1.25mm, IPC Low Density)
pins: 1, 2

## Resistor_8.87M
designator R?, comment Res3  value 8.87M
RES SMD 8.87M OHM 1% 1/8W 0805; MPN: CRCW08058M87FKEA; Name: Resistor_8.87M; PN: 541-8870MCCT-ND; URL: http://www.digikey.ca/product-detail/en/CRCW08058M87FKEA/541-8870MCCT-ND
footprint RESC2112X05M (Chip Resistor, 2-Leads, Body 2.05x1.25mm, IPC Low Density)
pins: 1, 2

## Resistor_8.87R
designator R?, comment Res3  value 8.87R
RES SMD 8.87R OHM 1% 1/8W 0805; MPN: CRCW08058R87FKEA; Name: Resistor_8.87R; PN: 541-8.87CCCT-ND; URL: http://www.digikey.ca/product-detail/en/CRCW08058R87FKEA/541-8.87CCCT-ND
footprint RESC2112X05M (Chip Resistor, 2-Leads, Body 2.05x1.25mm, IPC Low Density)
pins: 1, 2

## Resistor_9.09K
designator R?, comment Res3  value 9.09K
RES SMD 9.09K OHM 1% 1/8W 0805; MPN: CRCW08059K09FKEA; Name: Resistor_9.09K; PN: 541-9090KCCT-ND; URL: http://www.digikey.ca/product-detail/en/CRCW08059K09FKEA/541-9090KCCT-ND
footprint RESC2112X05M (Chip Resistor, 2-Leads, Body 2.05x1.25mm, IPC Low Density)
pins: 1, 2

## Resistor_9.09M
designator R?, comment Res3  value 9.09M
RES SMD 9.09M OHM 1% 1/8W 0805; MPN: CRCW08059M09FKEA; Name: Resistor_9.09M; PN: 541-9090MCCT-ND; URL: http://www.digikey.ca/product-detail/en/CRCW08059M09FKEA/541-9090MCCT-ND
footprint RESC2112X05M (Chip Resistor, 2-Leads, Body 2.05x1.25mm, IPC Low Density)
pins: 1, 2

## Resistor_9.09R
designator R?, comment Res3  value 9.09R
RES SMD 9.09R OHM 1% 1/8W 0805; MPN: CRCW08059R09FKEA; Name: Resistor_9.09R; PN: 541-9.09CCCT-ND; URL: http://www.digikey.ca/product-detail/en/CRCW08059R09FKEA/541-9.09CCCT-ND
footprint RESC2112X05M (Chip Resistor, 2-Leads, Body 2.05x1.25mm, IPC Low Density)
pins: 1, 2

## Resistor_9.31K
designator R?, comment Res3  value 9.31K
RES SMD 9.31K OHM 1% 1/8W 0805; MPN: CRCW08059K31FKEA; Name: Resistor_9.31K; PN: 541-9310KCCT-ND; URL: http://www.digikey.ca/product-detail/en/CRCW08059K31FKEA/541-9310KCCT-ND
footprint RESC2112X05M (Chip Resistor, 2-Leads, Body 2.05x1.25mm, IPC Low Density)
pins: 1, 2

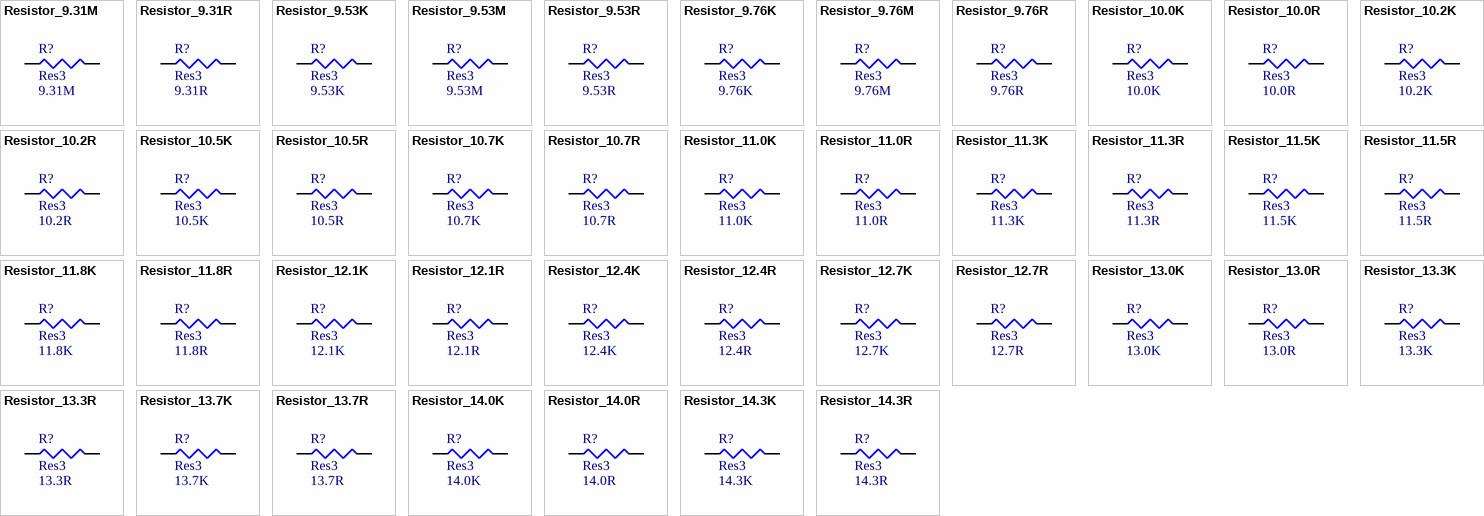
[diagram p7: symbols Resistor_9.31M to Resistor_14.3R]

## Resistor_9.31M
designator R?, comment Res3  value 9.31M
RES SMD 9.31M OHM 1% 1/8W 0805; MPN: CRCW08059M31FKEA; Name: Resistor_9.31M; PN: 541-9310MCCT-ND; URL: http://www.digikey.ca/product-detail/en/CRCW08059M31FKEA/541-9310MCCT-ND
footprint RESC2112X05M (Chip Resistor, 2-Leads, Body 2.05x1.25mm, IPC Low Density)
pins: 1, 2

## Resistor_9.31R
designator R?, comment Res3  value 9.31R
RES SMD 9.31R OHM 1% 1/8W 0805; MPN: CRCW08059R31FKEA; Name: Resistor_9.31R; PN: 541-9.31CCCT-ND; URL: http://www.digikey.ca/product-detail/en/CRCW08059R31FKEA/541-9.31CCCT-ND
footprint RESC2112X05M (Chip Resistor, 2-Leads, Body 2.05x1.25mm, IPC Low Density)
pins: 1, 2

## Resistor_9.53K
designator R?, comment Res3  value 9.53K
RES SMD 9.53K OHM 1% 1/8W 0805; MPN: CRCW08059K53FKEA; Name: Resistor_9.53K; PN: 541-9530KCCT-ND; URL: http://www.digikey.ca/product-detail/en/CRCW08059K53FKEA/541-9530KCCT-ND
footprint RESC2112X05M (Chip Resistor, 2-Leads, Body 2.05x1.25mm, IPC Low Density)
pins: 1, 2

## Resistor_9.53M
designator R?, comment Res3  value 9.53M
RES SMD 9.53M OHM 1% 1/8W 0805; MPN: CRCW08059M53FKEA; Name: Resistor_9.53M; PN: 541-9530MCCT-ND; URL: http://www.digikey.ca/product-detail/en/CRCW08059M53FKEA/541-9530MCCT-ND
footprint RESC2112X05M (Chip Resistor, 2-Leads, Body 2.05x1.25mm, IPC Low Density)
pins: 1, 2

## Resistor_9.53R
designator R?, comment Res3  value 9.53R
RES SMD 9.53R OHM 1% 1/8W 0805; MPN: CRCW08059R53FKEA; Name: Resistor_9.53R; PN: 541-9.53CCCT-ND; URL: http://www.digikey.ca/product-detail/en/CRCW08059R53FKEA/541-9.53CCCT-ND
footprint RESC2112X05M (Chip Resistor, 2-Leads, Body 2.05x1.25mm, IPC Low Density)
pins: 1, 2

## Resistor_9.76K
designator R?, comment Res3  value 9.76K
RES SMD 9.76K OHM 1% 1/8W 0805; MPN: CRCW08059K76FKEA; Name: Resistor_9.76K; PN: 541-9760KCCT-ND; URL: http://www.digikey.ca/product-detail/en/CRCW08059K76FKEA/541-9760KCCT-ND
footprint RESC2112X05M (Chip Resistor, 2-Leads, Body 2.05x1.25mm, IPC Low Density)
pins: 1, 2

## Resistor_9.76M
designator R?, comment Res3  value 9.76M
RES SMD 9.76M OHM 1% 1/8W 0805; MPN: CRCW08059M76FKEA; Name: Resistor_9.76M; PN: 541-9760MCCT-ND; URL: http://www.digikey.ca/product-detail/en/CRCW08059M76FKEA/541-9760MCCT-ND
footprint RESC2112X05M (Chip Resistor, 2-Leads, Body 2.05x1.25mm, IPC Low Density)
pins: 1, 2

## Resistor_9.76R
designator R?, comment Res3  value 9.76R
RES SMD 9.76R OHM 1% 1/8W 0805; MPN: CRCW08059R76FKEA; Name: Resistor_9.76R; PN: 541-9.76CCCT-ND; URL: http://www.digikey.ca/product-detail/en/CRCW08059R76FKEA/541-9.76CCCT-ND
footprint RESC2112X05M (Chip Resistor, 2-Leads, Body 2.05x1.25mm, IPC Low Density)
pins: 1, 2

## Resistor_10.0K
designator R?, comment Res3  value 10.0K
RES SMD 10.0K OHM 1% 1/8W 0805; MPN: CRCW080510K0FKEA; Name: Resistor_10.0K; PN: 541-1000KCCT-ND; URL: http://www.digikey.ca/product-detail/en/CRCW080510K0FKEA/541-1000KCCT-ND
footprint RESC2112X05M (Chip Resistor, 2-Leads, Body 2.05x1.25mm, IPC Low Density)
pins: 1, 2

## Resistor_10.0R
designator R?, comment Res3  value 10.0R
RES SMD 10.0R OHM 1% 1/8W 0805; MPN: CRCW080510R0FKEA; Name: Resistor_10.0R; PN: 541-10.0CCT-ND; URL: http://www.digikey.ca/product-detail/en/CRCW080510R0FKEA/541-10.0CCT-ND
footprint RESC2112X05M (Chip Resistor, 2-Leads, Body 2.05x1.25mm, IPC Low Density)
pins: 1, 2

## Resistor_10.2K
designator R?, comment Res3  value 10.2K
RES SMD 10.2K OHM 1% 1/8W 0805; MPN: CRCW080510K2FKEA; Name: Resistor_10.2K; PN: 541-1020KCCT-ND; URL: http://www.digikey.ca/product-detail/en/CRCW080510K2FKEA/541-1020KCCT-ND
footprint RESC2112X05M (Chip Resistor, 2-Leads, Body 2.05x1.25mm, IPC Low Density)
pins: 1, 2

## Resistor_10.2R
designator R?, comment Res3  value 10.2R
RES SMD 10.2R OHM 1% 1/8W 0805; MPN: CRCW080510R2FKEA; Name: Resistor_10.2R; PN: 541-10.2CCT-ND; URL: http://www.digikey.ca/product-detail/en/CRCW080510R2FKEA/541-10.2CCT-ND
footprint RESC2112X05M (Chip Resistor, 2-Leads, Body 2.05x1.25mm, IPC Low Density)
pins: 1, 2

## Resistor_10.5K
designator R?, comment Res3  value 10.5K
RES SMD 10.5K OHM 1% 1/8W 0805; MPN: CRCW080510K5FKEA; Name: Resistor_10.5K; PN: 541-1050KCCT-ND; URL: http://www.digikey.ca/product-detail/en/CRCW080510K5FKEA/541-1050KCCT-ND
footprint RESC2112X05M (Chip Resistor, 2-Leads, Body 2.05x1.25mm, IPC Low Density)
pins: 1, 2

## Resistor_10.5R
designator R?, comment Res3  value 10.5R
RES SMD 10.5R OHM 1% 1/8W 0805; MPN: CRCW080510R5FKEA; Name: Resistor_10.5R; PN: 541-10.5CCT-ND; URL: http://www.digikey.ca/product-detail/en/CRCW080510R5FKEA/541-10.5CCT-ND
footprint RESC2112X05M (Chip Resistor, 2-Leads, Body 2.05x1.25mm, IPC Low Density)
pins: 1, 2

## Resistor_10.7K
designator R?, comment Res3  value 10.7K
RES SMD 10.7K OHM 1% 1/8W 0805; MPN: CRCW080510K7FKEA; Name: Resistor_10.7K; PN: 541-1070KCCT-ND; URL: http://www.digikey.ca/product-detail/en/CRCW080510K7FKEA/541-1070KCCT-ND
footprint RESC2112X05M (Chip Resistor, 2-Leads, Body 2.05x1.25mm, IPC Low Density)
pins: 1, 2

## Resistor_10.7R
designator R?, comment Res3  value 10.7R
RES SMD 10.7R OHM 1% 1/8W 0805; MPN: CRCW080510R7FKEA; Name: Resistor_10.7R; PN: 541-10.7CCT-ND; URL: http://www.digikey.ca/product-detail/en/CRCW080510R7FKEA/541-10.7CCT-ND
footprint RESC2112X05M (Chip Resistor, 2-Leads, Body 2.05x1.25mm, IPC Low Density)
pins: 1, 2

## Resistor_11.0K
designator R?, comment Res3  value 11.0K
RES SMD 11.0K OHM 1% 1/8W 0805; MPN: CRCW080511K0FKEA; Name: Resistor_11.0K; PN: 541-1100KCCT-ND; URL: http://www.digikey.ca/product-detail/en/CRCW080511K0FKEA/541-1100KCCT-ND
footprint RESC2112X05M (Chip Resistor, 2-Leads, Body 2.05x1.25mm, IPC Low Density)
pins: 1, 2

## Resistor_11.0R
designator R?, comment Res3  value 11.0R
RES SMD 11.0R OHM 1% 1/8W 0805; MPN: CRCW080511R0FKEA; Name: Resistor_11.0R; PN: 541-11.0CCT-ND; URL: http://www.digikey.ca/product-detail/en/CRCW080511R0FKEA/541-11.0CCT-ND
footprint RESC2112X05M (Chip Resistor, 2-Leads, Body 2.05x1.25mm, IPC Low Density)
pins: 1, 2

## Resistor_11.3K
designator R?, comment Res3  value 11.3K
RES SMD 11.3K OHM 1% 1/8W 0805; MPN: CRCW080511K3FKEA; Name: Resistor_11.3K; PN: 541-1130KCCT-ND; URL: http://www.digikey.ca/product-detail/en/CRCW080511K3FKEA/541-1130KCCT-ND
footprint RESC2112X05M (Chip Resistor, 2-Leads, Body 2.05x1.25mm, IPC Low Density)
pins: 1, 2

## Resistor_11.3R
designator R?, comment Res3  value 11.3R
RES SMD 11.3R OHM 1% 1/8W 0805; MPN: CRCW080511R3FKEA; Name: Resistor_11.3R; PN: 541-11.3CCT-ND; URL: http://www.digikey.ca/product-detail/en/CRCW080511R3FKEA/541-11.3CCT-ND
footprint RESC2112X05M (Chip Resistor, 2-Leads, Body 2.05x1.25mm, IPC Low Density)
pins: 1, 2